# EAGLE library part GKLCD128X128_FLAT (library 029000100  -  gKEagleLibrary)
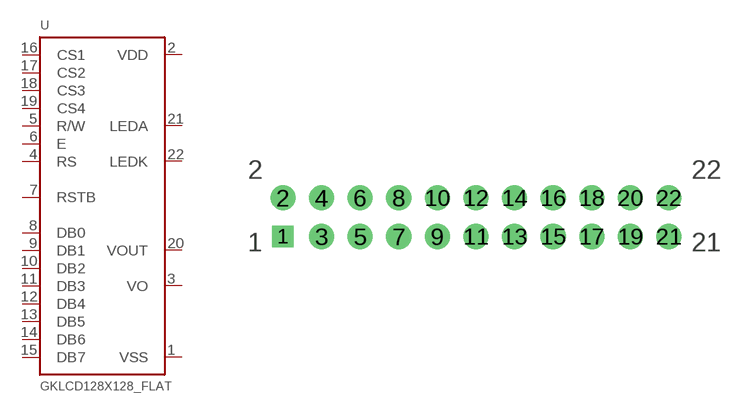
[diagram p19: symbol with the pads of GK_LCD128X128_FLAT; footprint GK_LCD128X128_FLAT]

Designator prefix -

## GKLCD128X128_FLAT  [GK_LCD128X128_FLAT]
1  VSS
2  VDD
3  VO
4  RS
5  R/W
6  E
7  RSTB
8  DB0
9  DB1
10  DB2
11  DB3
12  DB4
13  DB5
14  DB6
15  DB7
16  CS1
17  CS2
18  CS3
19  CS4
20  VOUT
21  LEDA
22  LEDK

## Footprint GK_LCD128X128_FLAT (pad centres in mm)
drill 0.9 square: 1 0.006,-0.04
drill 1.1: 2 0.006,2.5; 3 2.546,-0.04; 4 2.546,2.5; 5 5.086,-0.04; 6 5.086,2.5; 7 7.626,-0.04; 8 7.626,2.5; 9 10.166,-0.04; 10 10.166,2.5; 11 12.706,-0.04; 12 12.706,2.5; 13 15.246,-0.04; 14 15.246,2.5; 15 17.786,-0.04; 16 17.786,2.5; 17 20.326,-0.04; 18 20.326,2.5; 19 22.866,-0.04; 20 22.866,2.5; 21 25.406,-0.04; 22 25.406,2.5